# EAGLE library part 74LVC3G17 (library rocket)
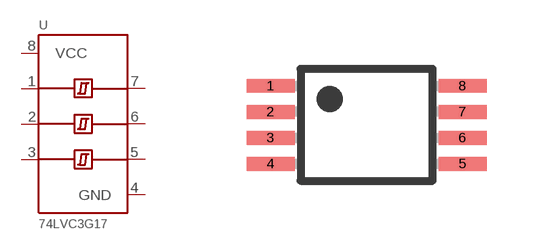
[diagram p4: symbol with the pads of TSSOP8-3MM; footprint TSSOP8-3MM]

Designator prefix -

## 74LVC3G17  [TSSOP8-3MM]
1  1A
2  3Y
3  2A
4  GND
5  2Y
6  3A
7  1Y
8  VCC

## Footprint TSSOP8-3MM (pad centres in mm)
smd 1.2 x 0.35: 1 -2.4,0.975; 2 -2.4,0.325; 3 -2.4,-0.325; 4 -2.4,-0.975; 5 2.4,-0.975; 6 2.4,-0.325; 7 2.4,0.325; 8 2.4,0.975